# EAGLE library part MSP-EXP432P401R (library msp432)
SimpleLink™ MSP432P401R high-precision ADC LaunchPad™ Development Kit Check prices <https://pricing.snapeda.com/parts/MSP-EXP432P401R/Texas%20Instruments/view-part?ref=eda>
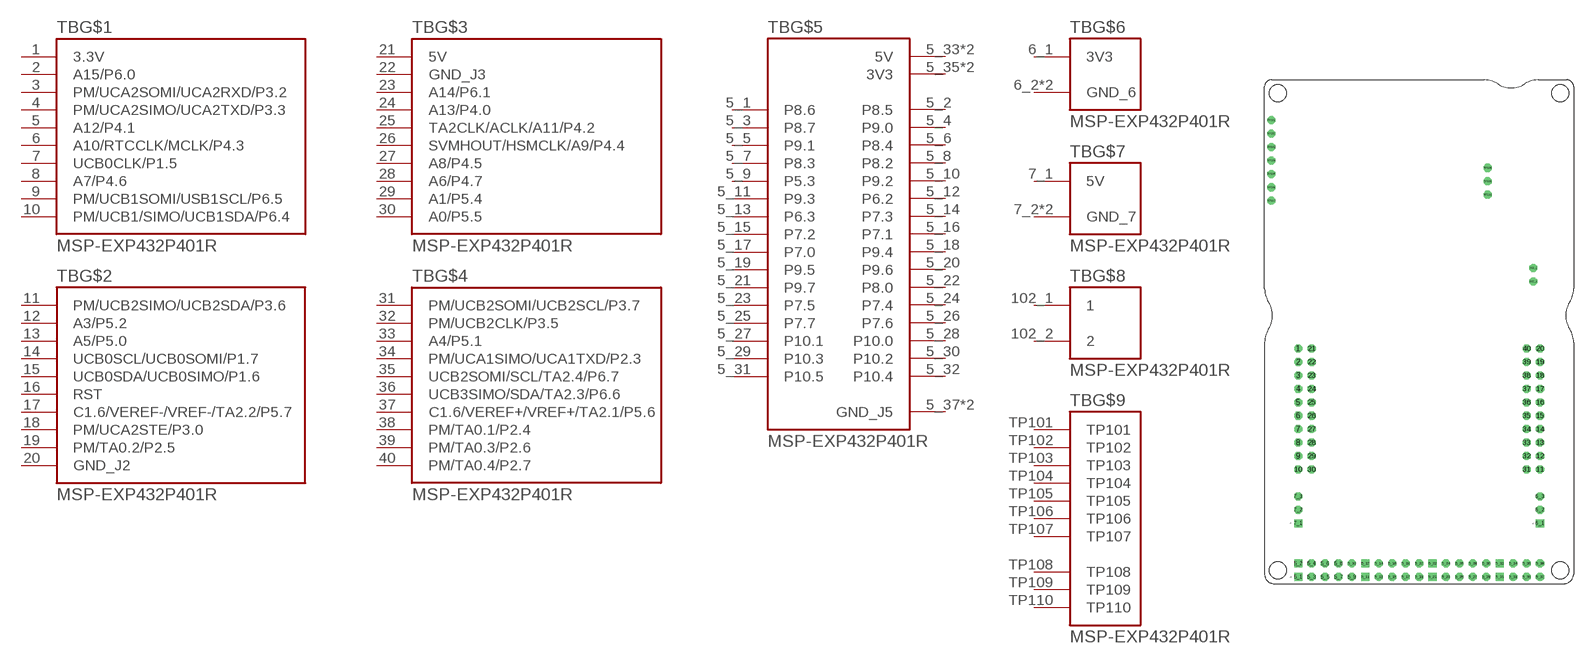
[diagram p0: symbol with the pads of SHIELD_MSP-EXP432P401R; footprint SHIELD_MSP-EXP432P401R]

Designator prefix TB; gates G$1=MSP-EXP432P401R_J1 G$2=MSP-EXP432P401R_J2 G$3=MSP-EXP432P401R_J3 G$4=MSP-EXP432P401R_J4 G$5=MSP-EXP432P401R_J5 G$6=MSP-EXP432P401R_J6 G$7=MSP-EXP432P401R_J7 G$8=MSP-EXP432P401R_JP102 G$9=MSP-EXP432P401R_TP

## MSP-EXP432P401R (Availability: In Stock; Description: SimpleLink™ MSP432P401R high-precision ADC LaunchPad™ Development Kit; MF: Texas Instruments; MP: MSP-EXP432P401R; Package: None; Price: None; Purchase-URL: https://pricing.snapeda.com/search/part/MSP-EXP432P401R/?ref=eda)  [SHIELD_MSP-EXP432P401R]
1  G$1:3.3V
2  G$1:A15/P6.0
3  G$1:PM/UCA2SOMI/UCA2RXD/P3.2
4  G$1:PM/UCA2SIMO/UCA2TXD/P3.3
5  G$1:A12/P4.1
5_1  G$5:P8.6
5_2  G$5:P8.5
5_3  G$5:P8.7
5_4  G$5:P9.0
5_5  G$5:P9.1
5_6  G$5:P8.4
5_7  G$5:P8.3
5_8  G$5:P8.2
5_9  G$5:P5.3
5_10  G$5:P9.2
5_11  G$5:P9.3
5_12  G$5:P6.2
5_13  G$5:P6.3
5_14  G$5:P7.3
5_15  G$5:P7.2
5_16  G$5:P7.1
5_17  G$5:P7.0
5_18  G$5:P9.4
5_19  G$5:P9.5
5_20  G$5:P9.6
5_21  G$5:P9.7
5_22  G$5:P8.0
5_23  G$5:P7.5
5_24  G$5:P7.4
5_25  G$5:P7.7
5_26  G$5:P7.6
5_27  G$5:P10.1
5_28  G$5:P10.0
5_29  G$5:P10.3
5_30  G$5:P10.2
5_31  G$5:P10.5
5_32  G$5:P10.4
5_33  G$5:5V  pwr
5_34  G$5:5V  pwr
5_35  G$5:3V3  pwr
5_36  G$5:3V3  pwr
5_37  G$5:GND_J5  pwr
5_38  G$5:GND_J5  pwr
6  G$1:A10/RTCCLK/MCLK/P4.3
6_1  G$6:3V3  pwr
6_2  G$6:GND_6  pwr
6_3  G$6:GND_6  pwr
7  G$1:UCB0CLK/P1.5
7_1  G$7:5V  pwr
7_2  G$7:GND_7  pwr
7_3  G$7:GND_7  pwr
8  G$1:A7/P4.6
9  G$1:PM/UCB1SOMI/USB1SCL/P6.5
10  G$1:PM/UCB1/SIMO/UCB1SDA/P6.4
11  G$2:PM/UCB2SIMO/UCB2SDA/P3.6
12  G$2:A3/P5.2
13  G$2:A5/P5.0
14  G$2:UCB0SCL/UCB0SOMI/P1.7
15  G$2:UCB0SDA/UCB0SIMO/P1.6
16  G$2:RST
17  G$2:C1.6/VEREF-/VREF-/TA2.2/P5.7
18  G$2:PM/UCA2STE/P3.0
19  G$2:PM/TA0.2/P2.5
20  G$2:GND_J2  pwr
21  G$3:5V  pwr
22  G$3:GND_J3  pwr
23  G$3:A14/P6.1
24  G$3:A13/P4.0
25  G$3:TA2CLK/ACLK/A11/P4.2
26  G$3:SVMHOUT/HSMCLK/A9/P4.4
27  G$3:A8/P4.5
28  G$3:A6/P4.7
29  G$3:A1/P5.4
30  G$3:A0/P5.5
31  G$4:PM/UCB2SOMI/UCB2SCL/P3.7
32  G$4:PM/UCB2CLK/P3.5
33  G$4:A4/P5.1
34  G$4:PM/UCA1SIMO/UCA1TXD/P2.3
35  G$4:UCB2SOMI/SCL/TA2.4/P6.7
36  G$4:UCB3SIMO/SDA/TA2.3/P6.6
37  G$4:C1.6/VEREF+/VREF+/TA2.1/P5.6
38  G$4:PM/TA0.1/P2.4
39  G$4:PM/TA0.3/P2.6
40  G$4:PM/TA0.4/P2.7
102_1  G$8:1
102_2  G$8:2
TP101  G$9:TP101
TP102  G$9:TP102
TP103  G$9:TP103
TP104  G$9:TP104
TP105  G$9:TP105
TP106  G$9:TP106
TP107  G$9:TP107
TP108  G$9:TP108
TP109  G$9:TP109
TP110  G$9:TP110

## Footprint SHIELD_MSP-EXP432P401R (pad centres in mm)
drill 1.016 octagon: 1 0.02,43.17; 2 0.02,40.63; 3 0.02,38.09; 4 0.02,35.55; 5 0.02,33.01; 5_3 2.56,-0.01; 5_4 2.56,2.53; 5_5 5.1,-0.01; 5_6 5.1,2.53; 5_7 7.64,-0.01; 5_8 7.64,2.53; 5_9 10.18,-0.01; 5_10 10.18,2.53; 5_13 15.26,-0.01; 5_14 15.26,2.53; 5_15 17.8,-0.01; 5_16 17.8,2.53; 5_17 20.34,-0.01; 5_18 20.34,2.53; 5_19 22.88,-0.01; 5_20 22.88,2.53; 5_23 27.96,-0.01; 5_24 27.96,2.53; 5_25 30.5,-0.01; 5_26 30.5,2.53; 5_27 33.04,-0.01; 5_28 33.04,2.53; 5_29 35.58,-0.01; 5_30 35.58,2.53; 5_33 40.66,-0.01; 5_34 40.66,2.53; 5_35 43.2,-0.01; 5_36 43.2,2.53; 5_37 45.74,-0.01; 5_38 45.74,2.53; 6 0.02,30.47; 6_2 45.74,12.69; 6_3 45.74,15.23; 7 0.02,27.93; 7_2 0.02,12.69; 7_3 0.02,15.23; 8 0.02,25.39; 9 0.02,22.85; 10 0.02,20.31; 11 45.74,20.31; 12 45.74,22.85; 13 45.74,25.39; 14 45.74,27.93; 15 45.74,30.47; 16 45.74,33.01; 17 45.74,35.55; 18 45.74,38.09; 19 45.74,40.63; 20 45.74,43.17; 21 2.56,43.17; 22 2.56,40.63; 23 2.56,38.09; 24 2.56,35.55; 25 2.56,33.01; 26 2.56,30.47; 27 2.56,27.93; 28 2.56,25.39; 29 2.56,22.85; 30 2.56,20.31; 31 43.2,20.31; 32 43.2,22.85; 33 43.2,25.39; 34 43.2,27.93; 35 43.2,30.47; 36 43.2,33.01; 37 43.2,35.55; 38 43.2,38.09; 39 43.2,40.63; 40 43.2,43.17; 102_1 44.47,58.41; 102_2 44.47,55.87; TP101 -5.05,86.35; TP102 -5.05,83.81; TP103 -5.05,81.27; TP104 -5.05,78.73; TP105 -5.05,76.19; TP106 -5.05,73.65; TP107 -5.05,71.11; TP108 35.83,77.33; TP109 35.83,74.79; TP110 35.83,72.25
drill 1.016 square: 5_1 0.02,-0.01; 5_2 0.02,2.53; 5_11 12.72,-0.01; 5_12 12.72,2.53; 5_21 25.42,-0.01; 5_22 25.42,2.53; 5_31 38.12,-0.01; 5_32 38.12,2.53; 6_1 45.74,10.15; 7_1 0.02,10.15
hole 3.175 at -3.79,91.43
hole 3.175 at 49.55,91.43
hole 3.175 at -3.79,1.26
hole 3.175 at 49.55,1.26